# Altium schematic symbol library rovi_tracking.SCHLIB: 47 symbols
Pins are listed as number, name and electrical type; pins without a type are passive.

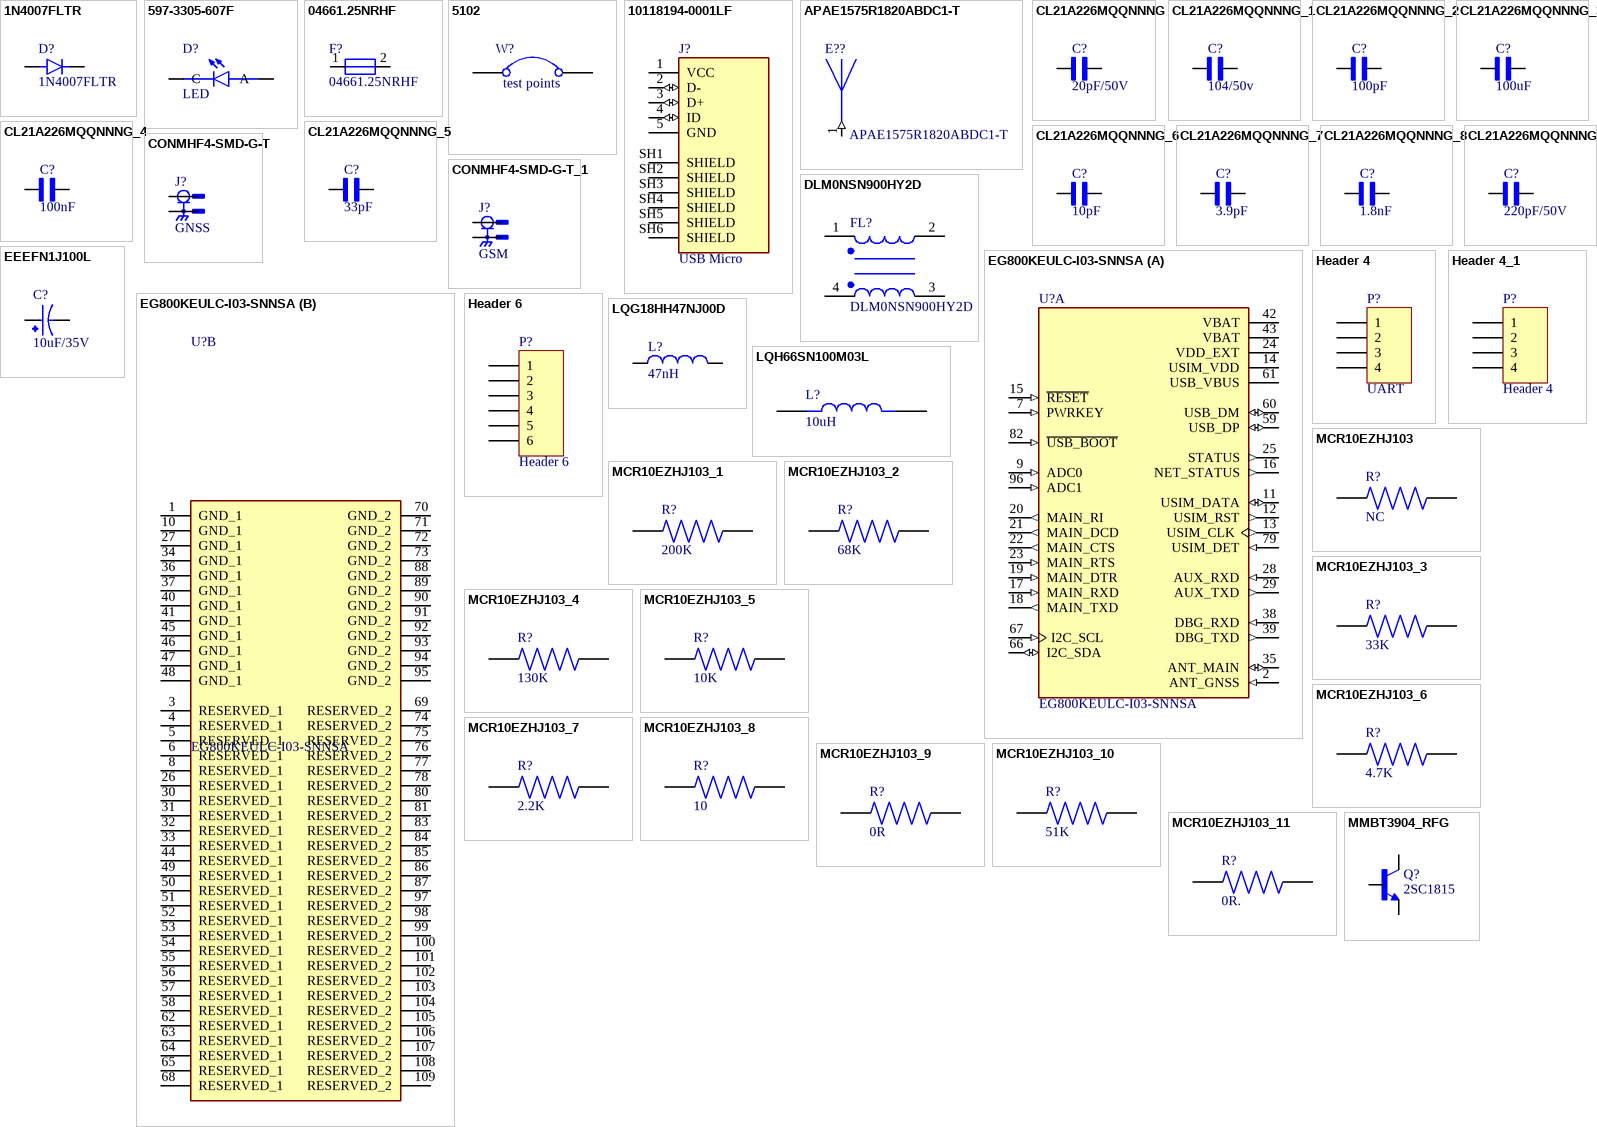
[diagram p0: symbols 1N4007FLTR to MMBT3904_RFG]

## 1N4007FLTR
designator D?
MF: {'manufacturer': u'SMC Diode Solutions'}; Package: None; Price: None; Value: *; MP: 1N4007FLTR; Availability: Unavailable
footprint SODFL3618X110N
pins: 1 K, 2 A

## 597-3305-607F
designator D?, comment LED
MF: {'manufacturer': u'Dialight'}; MP: 597-3305-607F; Package: None; Price: None; Value: *; Availability: Unavailable
footprint LEDC2012X70N
pins: A, C

## 04661.25NRHF
designator F?
MF: {'manufacturer': u'Littelfuse'}; Package: None; Price: None; Value: *; MP: 04661.25NRHF; Availability: Unavailable
footprint FUSC3115X66N
pins: 1, 2

## 5102
designator W?, comment test points
MF: {'manufacturer': u'Keystone'}; MP: 5102; Package: None; Price: None; Value: *; Availability: Unavailable
footprint KEYSTONE_5102
pins: 1, 2

## 10118194-0001LF
designator J?, comment USB Micro
MF: {'manufacturer': u'Amphenol ICC (FCI)'}; MP: 10118194-0001LF; Package: None; Price: None; Value: *; Availability: Unavailable
footprint AMPHENOL_10118194-0001LF
pins: 1 VCC (power), 2 D- (io), 3 D+ (io), 4 ID (io), 5 GND (power), SH1 SHIELD, SH2 SHIELD, SH3 SHIELD, SH4 SHIELD, SH5 SHIELD, SH6 SHIELD

## APAE1575R1820ABDC1-T
designator E??
MF: {'manufacturer': u'Abracon'}; Package: None; Price: None; Value: *; MP: APAE1575R1820ABDC1-T; Availability: Unavailable
footprint XDCR_APAE1575R1820ABDC1-T
pins: 1 (in)

## CL21A226MQQNNNG
designator C?, comment 20pF/50V
MF: {'manufacturer': u'Samsung Electro-Mechanics'}; MP: CL21A226MQQNNNG; Package: None; Price: None; Value: *; Availability: Unavailable
footprint CAPC2012X140N
pins: 1, 2

## CL21A226MQQNNNG_1
designator C?, comment 104/50v
MF: {'manufacturer': u'Samsung Electro-Mechanics'}; MP: CL21A226MQQNNNG; Package: None; Price: None; Value: *; Availability: Unavailable
footprint CAPC2012X140N
pins: 1, 2

## CL21A226MQQNNNG_2
designator C?, comment 100pF
MF: {'manufacturer': u'Samsung Electro-Mechanics'}; MP: CL21A226MQQNNNG; Package: None; Price: None; Value: *; Availability: Unavailable
footprint CAPC2012X140N
pins: 1, 2

## CL21A226MQQNNNG_3
designator C?, comment 100uF
MF: {'manufacturer': u'Samsung Electro-Mechanics'}; MP: CL21A226MQQNNNG; Package: None; Price: None; Value: *; Availability: Unavailable
footprint CAPC2012X140N
pins: 1, 2

## CL21A226MQQNNNG_4
designator C?, comment 100nF
MF: {'manufacturer': u'Samsung Electro-Mechanics'}; MP: CL21A226MQQNNNG; Package: None; Price: None; Value: *; Availability: Unavailable
footprint CAPC2012X140N
pins: 1, 2

## CL21A226MQQNNNG_5
designator C?, comment 33pF
MF: {'manufacturer': u'Samsung Electro-Mechanics'}; MP: CL21A226MQQNNNG; Package: None; Price: None; Value: *; Availability: Unavailable
footprint CAPC2012X140N
pins: 1, 2

## CL21A226MQQNNNG_6
designator C?, comment 10pF
MF: {'manufacturer': u'Samsung Electro-Mechanics'}; MP: CL21A226MQQNNNG; Package: None; Price: None; Value: *; Availability: Unavailable
footprint CAPC2012X140N
pins: 1, 2

## CL21A226MQQNNNG_7
designator C?, comment 3.9pF
MF: {'manufacturer': u'Samsung Electro-Mechanics'}; MP: CL21A226MQQNNNG; Package: None; Price: None; Value: *; Availability: Unavailable
footprint CAPC2012X140N
pins: 1, 2

## CL21A226MQQNNNG_8
designator C?, comment 1.8nF
MF: {'manufacturer': u'Samsung Electro-Mechanics'}; MP: CL21A226MQQNNNG; Package: None; Price: None; Value: *; Availability: Unavailable
footprint CAPC2012X140N
pins: 1, 2

## CL21A226MQQNNNG_9
designator C?, comment 220pF/50V
MF: {'manufacturer': u'Samsung Electro-Mechanics'}; MP: CL21A226MQQNNNG; Package: None; Price: None; Value: *; Availability: Unavailable
footprint CAPC2012X140N
pins: 1, 2

## CONMHF4-SMD-G-T
designator J?, comment GNSS
MF: {'manufacturer': u'Linx Technologies Inc.'}; MP: CONMHF4-SMD-G-T; Package: None; Price: None; Value: *; Availability: Unavailable
footprint TE_CONMHF4-SMD-G-T
pins: 1 SIG, 2 GND (power), 3 GND (power), 4 GND (power)

## CONMHF4-SMD-G-T_1
designator J?, comment GSM
MF: {'manufacturer': u'Linx Technologies Inc.'}; MP: CONMHF4-SMD-G-T; Package: None; Price: None; Value: *; Availability: Unavailable
footprint TE_CONMHF4-SMD-G-T
pins: 1 SIG, 2 GND (power), 3 GND (power), 4 GND (power)

## DLM0NSN900HY2D
designator FL?
MF: {'manufacturer': u'Murata Electronics'}; Package: None; Price: None; Value: *; MP: DLM0NSN900HY2D; Availability: Unavailable
footprint FIL_DLM0NSN900HY2D
pins: 1, 2, 3, 4

## EEEFN1J100L
designator C?, comment 10uF/35V
MF: {'manufacturer': u'Panasonic'}; MP: EEEFN1J100L; Package: None; Price: None; Value: *; Availability: Unavailable
footprint CAP_EEEFN1J100L
pins: 1, 2

## EG800KEULC-I03-SNNSA
designator U?
Quectel Wireless Solutions LTE Cat 1.bis, w/o GNSS & BT, w/o VoLTE, w/ DFOTA. Wi-Fi scan, USB 2.0 interface; SnapEDA_Link: https://www.snapeda.com/parts/EG800KEULC-I03-SNNSA/Quectel/view-part/?ref=snap; Package: None; Value: *; MF: Quectel; MP: EG800KEULC-I03-SNNSA; Check_prices: https://www.snapeda.com/parts/EG800KEULC-I03-SNNSA/Quectel/view-part/?ref=eda
footprint XCVR_EG800KEULC-I03-SNNSA
part A pins: 2 ANT_GNSS (in), 7 PWRKEY (in), 9 ADC0 (in), 11 USIM_DATA (io), 12 USIM_RST (out), 13 USIM_CLK (out), 14 USIM_VDD (power), 15 ~{RESET} (in), 16 NET_STATUS (out), 17 MAIN_RXD (in), 18 MAIN_TXD (out), 19 MAIN_DTR (in), 20 MAIN_RI (out), 21 MAIN_DCD (out), 22 MAIN_CTS (out), 23 MAIN_RTS (in), 24 VDD_EXT (power), 25 STATUS (out), 28 AUX_RXD (in), 29 AUX_TXD (out), 35 ANT_MAIN (io), 38 DBG_RXD (in), 39 DBG_TXD (out), 42 VBAT (power), 43 VBAT (power), 59 USB_DP (io), 60 USB_DM (io), 61 USB_VBUS (power), 66 I2C_SDA (io), 67 I2C_SCL (in), 79 USIM_DET (in), 82 ~{USB_BOOT} (in), 96 ADC1 (in)
part B pins: 1 GND_1 (power), 3 RESERVED_1, 4 RESERVED_1, 5 RESERVED_1, 6 RESERVED_1, 8 RESERVED_1, 10 GND_1 (power), 26 RESERVED_1, 27 GND_1 (power), 30 RESERVED_1, 31 RESERVED_1, 32 RESERVED_1, 33 RESERVED_1, 34 GND_1 (power), 36 GND_1 (power), 37 GND_1 (power), 40 GND_1 (power), 41 GND_1 (power), 44 RESERVED_1, 45 GND_1 (power), 46 GND_1 (power), 47 GND_1 (power), 48 GND_1 (power), 49 RESERVED_1, 50 RESERVED_1, 51 RESERVED_1, 52 RESERVED_1, 53 RESERVED_1, 54 RESERVED_1, 55 RESERVED_1, 56 RESERVED_1, 57 RESERVED_1, 58 RESERVED_1, 62 RESERVED_1, 63 RESERVED_1, 64 RESERVED_1, 65 RESERVED_1, 68 RESERVED_1, 69 RESERVED_2, 70 GND_2 (power), 71 GND_2 (power), 72 GND_2 (power), 73 GND_2 (power), 74 RESERVED_2, 75 RESERVED_2, 76 RESERVED_2, 77 RESERVED_2, 78 RESERVED_2, 80 RESERVED_2, 81 RESERVED_2, 83 RESERVED_2, 84 RESERVED_2, 85 RESERVED_2, 86 RESERVED_2, 87 RESERVED_2, 88 GND_2 (power), 89 GND_2 (power), 90 GND_2 (power), 91 GND_2 (power), 92 GND_2 (power), 93 GND_2 (power), 94 GND_2 (power), 95 GND_2 (power), 97 RESERVED_2, 98 RESERVED_2, 99 RESERVED_2, 100 RESERVED_2, 101 RESERVED_2, 102 RESERVED_2, 103 RESERVED_2, 104 RESERVED_2, 105 RESERVED_2, 106 RESERVED_2, 107 RESERVED_2, 108 RESERVED_2, 109 RESERVED_2

## Header 4
designator P?, comment UART
Header, 4-Pin; LatestRevisionDate: 17-Jul-2002; LatestRevisionNote: Re-released for DXP Platform.; Publisher: Altium Limited
footprint HDR1X4 (Connector; Header; 4 Position)
signal-integrity model Connector
pins: 1, 2, 3, 4

## Header 4_1
designator P?, comment Header 4
Header, 4-Pin; LatestRevisionDate: 17-Jul-2002; LatestRevisionNote: Re-released for DXP Platform.; Publisher: Altium Limited
footprint HDR1X4 (Connector; Header; 4 Position)
signal-integrity model Connector
pins: 1, 2, 3, 4

## Header 6
designator P?
Header, 6-Pin; LatestRevisionDate: 17-Jul-2002; LatestRevisionNote: Re-released for DXP Platform.; Publisher: Altium Limited
footprint HDR1X6 (Connector; Header; 6 Position)
signal-integrity model Connector
pins: 1, 2, 3, 4, 5, 6

## LQG18HH47NJ00D
designator L?, comment 47nH
MF: {'manufacturer': u'Murata Electronics'}; MP: LQG18HH47NJ00D; Package: None; Price: None; Value: *; Availability: Unavailable
footprint INDC1608X95N
pins: 1, 2

## LQH66SN100M03L
designator L?, comment 10uH
MF: {'manufacturer': u'Murata'}; MP: LQH66SN100M03L; Package: None; Price: None; Value: *; Availability: Unavailable
footprint IND_LQH66SN100M03L
pins: 1, 2

## MCR10EZHJ103
designator R?, comment NC
MF: {'manufacturer': u'Rohm'}; MP: MCR10EZHJ103; Package: None; Price: None; Value: *; Availability: Unavailable
footprint RESC2012X65N
pins: 1, 2

## MCR10EZHJ103_1
designator R?, comment 200K
MF: {'manufacturer': u'Rohm'}; MP: MCR10EZHJ103; Package: None; Price: None; Value: *; Availability: Unavailable
footprint RESC2012X65N
pins: 1, 2

## MCR10EZHJ103_2
designator R?, comment 68K
MF: {'manufacturer': u'Rohm'}; MP: MCR10EZHJ103; Package: None; Price: None; Value: *; Availability: Unavailable
footprint RESC2012X65N
pins: 1, 2

## MCR10EZHJ103_3
designator R?, comment 33K
MF: {'manufacturer': u'Rohm'}; MP: MCR10EZHJ103; Package: None; Price: None; Value: *; Availability: Unavailable
footprint RESC2012X65N
pins: 1, 2

## MCR10EZHJ103_4
designator R?, comment 130K
MF: {'manufacturer': u'Rohm'}; MP: MCR10EZHJ103; Package: None; Price: None; Value: *; Availability: Unavailable
footprint RESC2012X65N
pins: 1, 2

## MCR10EZHJ103_5
designator R?, comment 10K
MF: {'manufacturer': u'Rohm'}; MP: MCR10EZHJ103; Package: None; Price: None; Value: *; Availability: Unavailable
footprint RESC2012X65N
pins: 1, 2

## MCR10EZHJ103_6
designator R?, comment 4.7K
MF: {'manufacturer': u'Rohm'}; MP: MCR10EZHJ103; Package: None; Price: None; Value: *; Availability: Unavailable
footprint RESC2012X65N
pins: 1, 2

## MCR10EZHJ103_7
designator R?, comment 2.2K
MF: {'manufacturer': u'Rohm'}; MP: MCR10EZHJ103; Package: None; Price: None; Value: *; Availability: Unavailable
footprint RESC2012X65N
pins: 1, 2

## MCR10EZHJ103_8
designator R?, comment 10
MF: {'manufacturer': u'Rohm'}; MP: MCR10EZHJ103; Package: None; Price: None; Value: *; Availability: Unavailable
footprint RESC2012X65N
pins: 1, 2

## MCR10EZHJ103_9
designator R?, comment 0R
MF: {'manufacturer': u'Rohm'}; MP: MCR10EZHJ103; Package: None; Price: None; Value: *; Availability: Unavailable
footprint RESC2012X65N
pins: 1, 2

## MCR10EZHJ103_10
designator R?, comment 51K
MF: {'manufacturer': u'Rohm'}; MP: MCR10EZHJ103; Package: None; Price: None; Value: *; Availability: Unavailable
footprint RESC2012X65N
pins: 1, 2

## MCR10EZHJ103_11
designator R?, comment 0R.
MF: {'manufacturer': u'Rohm'}; MP: MCR10EZHJ103; Package: None; Price: None; Value: *; Availability: Unavailable
footprint RESC2012X65N
pins: 1, 2

## MMBT3904_RFG
designator Q?, comment 2SC1815
MF: {'manufacturer': u'Taiwan Semiconductor'}; MP: MMBT3904_RFG; Package: None; Price: None; Value: *; Availability: Unavailable
footprint SOT95P237X112-3N
pins: 1 B, 2 E, 3 C

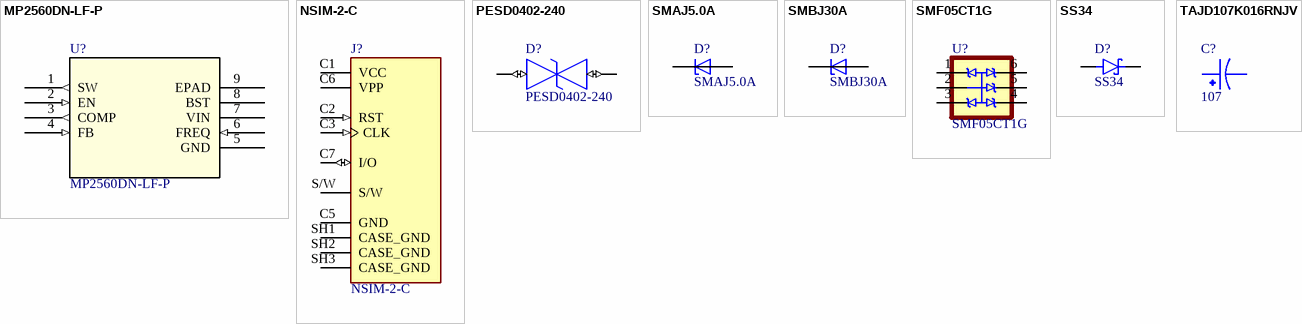
[diagram p1: symbols MP2560DN-LF-P to TAJD107K016RNJV]

## MP2560DN-LF-P
designator U?
2.5A 4MHz 42V Step-Down Converter; Manufacturer_Name: Monolithic Power Systems; Copyright: Copyright (C) 2025 Ultra Librarian. All rights reserved.; Manufacturer_Part_Number: MP2560DN-LF-P; Datasheet: https://www.monolithicpower.com/en/documentview/productdocument/index/version/2/document_type/Datasheet/lang/en/sku/MP2560; RefDes: RefDes; Type: Type
footprint SOIC8E_MP2560_MNP
pins: 1 SW (out), 2 EN (in), 3 COMP (out), 4 FB (in), 5 GND (power), 6 FREQ (in), 7 VIN (power), 8 BST (power), 9 EPAD (power)

## NSIM-2-C
designator J?
MF: {'manufacturer': u'Same Sky'}; Package: None; Price: None; Value: *; MP: NSIM-2-C; Availability: Unavailable
footprint CUI_NSIM-2-C
pins: C1 VCC (power), C2 RST (in), C3 CLK (in), C5 GND (power), C6 VPP (power), C7 I/O (io), S/W, SH1 CASE_GND (power), SH2 CASE_GND (power), SH3 CASE_GND (power)

## PESD0402-240
designator D?
Polymer ESD PESD line of devices; MF: Littelfuse; SnapEDA_Link: https://www.snapeda.com/parts/PESD0402-240/Ersa/view-part/?ref=snap; Package: None; Value: *; MP: PESD0402-240; Check_prices: https://www.snapeda.com/parts/PESD0402-240/Ersa/view-part/?ref=eda
footprint DIONC1005X43N
pins: 1 (io), 2 (io)

## SMAJ5.0A
designator D?
MF: {'manufacturer': u'Taiwan Semiconductor'}; Package: None; Price: None; Value: *; MP: SMAJ5.0A; Availability: Unavailable
footprint DIOM4325X250N
pins: A, C

## SMBJ30A
designator D?
MF: {'manufacturer': u'STMicroelectronics'}; Package: None; Price: None; Value: *; MP: SMBJ30A; Availability: Unavailable
footprint DIOM4336X265N
pins: A, C

## SMF05CT1G
designator U?
MF: {'manufacturer': u'ON Semiconductor'}; Package: None; Price: None; Value: *; MP: SMF05CT1G; Availability: Unavailable
footprint SOT65P210X110-6N
pins: 1 C1, 2 A, 3 C2, 4 C3, 5 C4, 6 C5

## SS34
designator D?
MF: {'manufacturer': u'onsemi'}; Package: None; Price: None; Value: *; MP: SS34; Availability: Unavailable
footprint DIOM7959X265N
pins: A, C K

## TAJD107K016RNJV
designator C?, comment 107
MF: {'manufacturer': u'AVX'}; MP: TAJD107K016RNJV; Package: None; Price: None; Value: *; Availability: Unavailable
footprint CAPMP7343X310N
pins: 1, 2